# Altium schematic symbol library BG0250TG.SCHLIB: 16 symbols
Pins are listed as number, name and electrical type; pins without a type are passive.

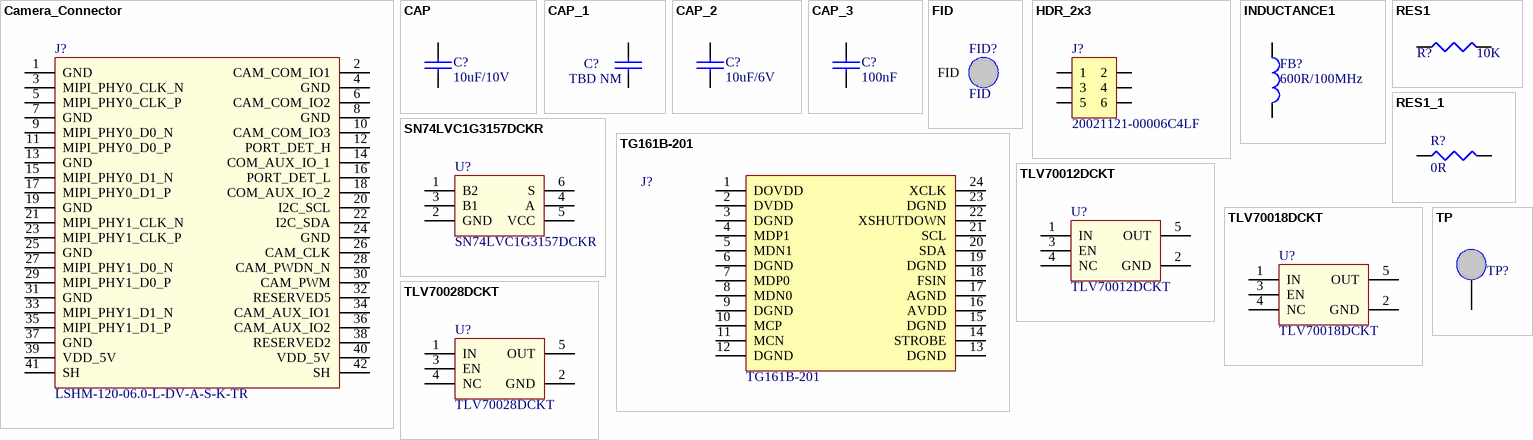
[diagram p0: symbols Camera_Connector to TP]

## Camera_Connector
designator J?, comment LSHM-120-06.0-L-DV-A-S-K-TR
Camera connector; MAN: Samtec; ICCO PN: MV182027; MAN PN: LSHM-120-06.0-L-DV-A-S-K-TR; DIST: Samtec; DIST PN: LSHM-120-06.0-L-DV-A-S-K-TR
footprint LSHM-120-06.0-F-DV_DB (Samtec pinout daughter board version)
pins: 1 GND, 2 CAM_COM_IO1, 3 MIPI_PHY0_CLK_N, 4 GND, 5 MIPI_PHY0_CLK_P, 6 CAM_COM_IO2, 7 GND, 8 GND, 9 MIPI_PHY0_D0_N, 10 CAM_COM_IO3, 11 MIPI_PHY0_D0_P, 12 PORT_DET_H, 13 GND, 14 COM_AUX_IO_1, 15 MIPI_PHY0_D1_N, 16 PORT_DET_L, 17 MIPI_PHY0_D1_P, 18 COM_AUX_IO_2, 19 GND, 20 I2C_SCL, 21 MIPI_PHY1_CLK_N, 22 I2C_SDA, 23 MIPI_PHY1_CLK_P, 24 GND, 25 GND, 26 CAM_CLK, 27 MIPI_PHY1_D0_N, 28 CAM_PWDN_N, 29 MIPI_PHY1_D0_P, 30 CAM_PWM, 31 GND, 32 RESERVED5, 33 MIPI_PHY1_D1_N, 34 CAM_AUX_IO1, 35 MIPI_PHY1_D1_P, 36 CAM_AUX_IO2, 37 GND, 38 RESERVED2, 39 VDD_5V, 40 VDD_5V, 41 SH, 42 SH

## CAP
designator C?, comment 10uF/10V
CC0603MRX5R5BB106  SMD Multilayer Ceramic Capacitor, 0603 [1608 Metric], 10 µF, 6.3 V, ± 20%, X5R; MAN: Yageo(PHYCOM); ICCO PN: MV122009; DIST: Farnell; DIST PN: 1458902; MAN PN: CC0603MRX5R5BB106
footprint 0603 (chip 0603)
pins: 1, 2

## CAP_1
designator C?, comment TBD NM
CC0603MRX5R5BB106  SMD Multilayer Ceramic Capacitor, 0603 [1608 Metric], 10 µF, 6.3 V, ± 20%, X5R; MAN: Yageo(PHYCOM); ICCO PN: MV122009; DIST: Farnell; DIST PN: 1458902; MAN PN: CC0603MRX5R5BB106
footprint 0603 (chip 0603)
pins: 1, 2

## CAP_2
designator C?, comment 10uF/6V
CC0603MRX5R5BB106  SMD Multilayer Ceramic Capacitor, 0603 [1608 Metric], 10 µF, 6.3 V, ± 20%, X5R; MAN: Yageo(PHYCOM); ICCO PN: MV122009; DIST: Farnell; DIST PN: 1458902; MAN PN: CC0603MRX5R5BB106
footprint 0603 (chip 0603)
pins: 1, 2

## CAP_3
designator C?, comment 100nF
SMD Multilayer Ceramic Capacitor, 0402 [1005 Metric], 0.1 µF, 10 V, ± 10%, X5R; MAN: Kemet; MAN PN: C0402C104K8PACTU; ICCO PN: MV122005; DIST: Farnell; DIST PN: 2392235
footprint 0402 (chip 0402)
pins: 1, 2

## FID
designator FID?  (no BOM)
Fiducial mark; MAN PN: No part on PCB; MAN: Fiducial
footprint FID1
pins: FID (in)

## HDR_2x3
designator J?, comment 20021121-00006C4LF
Board-To-Board Connector, Vertical, 1.27 mm, 6 Contacts, Header; DIST: Farnell; DIST PN: 1865277; ICCO PN: MV250004; MAN: AMPHENOL FCI; MAN PN: 20021121-00006C4LF
footprint con-20021121-00006C4LF (Footprint not found)
pins: 1, 2, 3, 4, 5, 6

## INDUCTANCE1
designator FB?, comment 600R/100MHz
Ferrite Bead; MAN: FAIR-RITE; MAN PN: 2508056017Y2; ICCO PN: MV142024; DIST: Farnell; DIST PN: 1838838RL
footprint 0805
footprint 1206
pins: 1, 2

## RES1
designator R?, comment 10K
SMD Chip Resistor, 10 kohm, 75 V, 0603 [1608 Metric], 100 mW, ± 1%; MAN: Walsin; MAN PN: WR06X1002FTL; ICCO PN: MV122008; DIST: Farnell; DIST PN: 2502397
footprint 0603 (chip 0603)
footprint 1206
pins: 1, 2

## RES1_1
designator R?, comment 0R
SMD Chip Resistor, Thick Film, 0 ohm, 75 V, 0603 [1608 Metric], 100 mW; MAN: Panasonic; MAN PN: ERJ3GEY0R00V; ICCO PN: MV122003; DIST: Farnell; DIST PN: 2059527RL
footprint 0603 (chip 0603)
footprint 1206
pins: 1, 2

## SN74LVC1G3157DCKR
designator U?
STDP analog switch; MAN: TI; ICCO PN: MV182008; DIST: Farnell; DIST PN: 1470911RL; MAN PN: SN74LVC1G3157DCKR
footprint DCK6_65
pins: 1 B2, 2 GND, 3 B1, 4 A, 5 VCC, 6 S

## TG161B-201
designator J?
24 way, 2row baord to board connector SMD; ICCO PN: MV250003; MAN: ACON; MAN PN: BBR43-24KB533; DIST: Sunny; DIST PN: BBR43-24KB533
footprint TG161B-201
pins: 1 DOVDD, 2 DVDD, 3 DGND, 4 MDP1, 5 MDN1, 6 DGND, 7 MDP0, 8 MDN0, 9 DGND, 10 MCP, 11 MCN, 12 DGND, 13 DGND, 14 STROBE, 15 DGND, 16 AVDD, 17 AGND, 18 FSIN, 19 DGND, 20 SDA, 21 SCL, 22 XSHUTDOWN, 23 DGND, 24 XCLK

## TLV70012DCKT
designator U?
LDO, 200MA, 1.2V, 5SC70; MAN: TI; DIST PN: 2437498; DIST: Farnell; ICCO PN: MV250001; MAN PN: TLV70012DCKT
footprint SC70-5 (Footprint not found)
pins: 1 IN, 2 GND, 3 EN, 4 NC, 5 OUT

## TLV70018DCKT
designator U?
LDO, 200MA, 1.8V, 5SC70; MAN: TI; DIST PN: 1778221; DIST: Farnell; ICCO PN: MV198003; MAN PN: TLV70018DCKT
footprint SC70-5 (Footprint not found)
pins: 1 IN, 2 GND, 3 EN, 4 NC, 5 OUT

## TLV70028DCKT
designator U?
LDO, 200MA, 2.8V, 5SC70; MAN: TI; DIST PN: 1778222; DIST: Farnell; ICCO PN: MV250002; MAN PN: TLV70028DCKT
footprint SC70-5 (Footprint not found)
pins: 1 IN, 2 GND, 3 EN, 4 NC, 5 OUT

## TP
designator TP?, comment TP NM  (value not drawn)  (no BOM)
TEST POIN; MAN: SMD TESTPOINT; MAN PN: SMD TESTPOINT
footprint TP1
footprint TP2
footprint TP_THT
footprint TP_SMD
pins: 1